# EAGLE library part TLC59116 (library WCSMain)
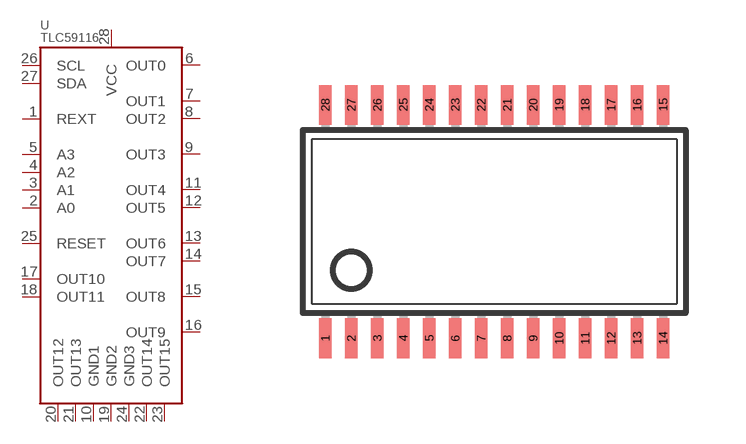
[diagram p3: symbol with the pads of TSSOP28; footprint TSSOP28]

Designator prefix -

## TLC59116  [TSSOP28]
1  REXT  pas
2  A0  in
3  A1  in
4  A2  in
5  A3  in
6  OUT0  out
7  OUT1  out
8  OUT2  out
9  OUT3  out
10  GND1  pas
11  OUT4  out
12  OUT5  out
13  OUT6  out
14  OUT7  out
15  OUT8  out
16  OUT9  out
17  OUT10  out
18  OUT11  out
19  GND2  pas
20  OUT12  out
21  OUT13  out
22  OUT14  out
23  OUT15  out
24  GND3  pas
25  RESET
26  SCL
27  SDA
28  VCC  sup

## Footprint TSSOP28 (pad centres in mm)
Thin Shrink Small Outline Plastic 28 MAX3223-MAX3243.pdf
smd 0.305 x 0.991: 1 -4.225,-2.918; 2 -3.575,-2.918; 3 -2.925,-2.918; 4 -2.275,-2.918; 5 -1.625,-2.918; 6 -0.975,-2.918; 7 -0.325,-2.918; 8 0.325,-2.918; 9 0.975,-2.918; 10 1.625,-2.918; 11 2.275,-2.918; 12 2.925,-2.918; 13 3.575,-2.918; 14 4.225,-2.918; 15 4.225,2.918; 16 3.575,2.918; 17 2.925,2.918; 18 2.275,2.918; 19 1.625,2.918; 20 0.975,2.918; 21 0.325,2.918; 22 -0.325,2.918; 23 -0.975,2.918; 24 -1.625,2.918; 25 -2.275,2.918; 26 -2.925,2.918; 27 -3.575,2.918; 28 -4.225,2.918